# EAGLE library part TUXGR_16X2_R2 (library lcd_16X2)
Tuxgraphics LCD display 16x2 characters reflective, without background light Source: tuxgr_12x2_r2.pdf
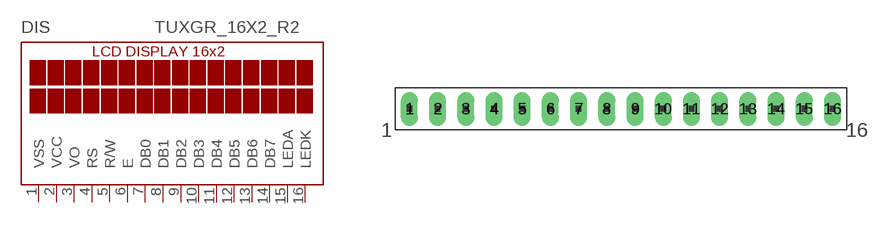
[diagram p0: symbol with the pads of LCD_16X2_PAC; footprint LCD_16X2_PAC]

Designator prefix DIS

## TUXGR_16X2_R2  [LCD_16X2_PAC]
1  VSS  pwr
2  VCC  pwr
3  VO  in
4  RS  in
5  R/W  in
6  E  in
7  DB0  in
8  DB1  in
9  DB2  in
10  DB3  in
11  DB4  in
12  DB5  in
13  DB6  in
14  DB7  in
15  LEDA  nc
16  LEDK  nc

## Footprint LCD_16X2_PAC (pad centres in mm)
drill 1.016 pad 1.422 long: 1 -21.59,0; 2 -19.05,0; 3 -16.51,0; 4 -13.97,0; 5 -11.43,0; 6 -8.89,0; 7 -6.35,0; 8 -3.81,0; 9 -1.27,0; 10 1.27,0; 11 3.81,0; 12 6.35,0; 13 8.89,0; 14 11.43,0; 15 13.97,0; 16 16.51,0